# Altium footprint library ds1069_4mrw6xa.PcbLib: 1 footprints
Each footprint in its own frame and in the unit in brackets; x right, y up, seen from the top. Pads: shape width x height; smd on the part's side, far side on the other; paste and mask are expansions set on the pad; w line width, h text height; cw(c..) or ccw(c..) is an arc to the next point about the centre after c.
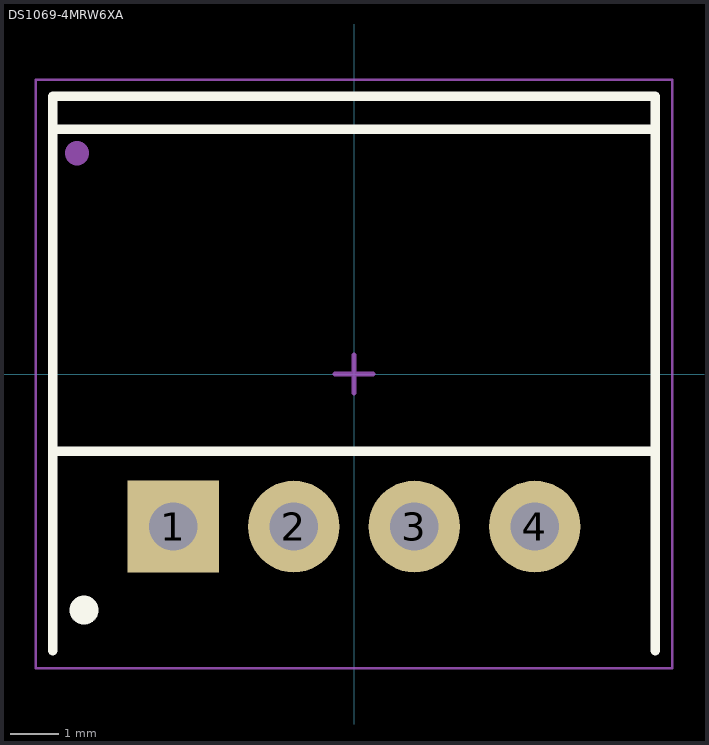
[diagram p0: the footprint, top view; thin cyan lines are the x and y axes]

## DS1069-4MRW6XA [mm]
height 7
pads (4):
  rect 1.9x1.9 hole 1: 1(-3.75,-3.164)
  round 1.9 hole 1: 2(-1.25,-3.164) 3(1.25,-3.164) 4(3.75,-3.164)
Top Overlay:
  circle w0.6: c-5.6,-4.9 r0.001
  lines w0.2: -6.25,-5.737 -6.25,5.763 6.25,5.763 6.25,-5.737 ; -6.25,-1.6 6.25,-1.6 ; -6.25,5.08 6.25,5.08
Top Comment:
  text ".Comment" at 1,6.5 h1.2
Top Designator:
  text ".Designator" at -0.6,6.5 h1.2
Top Component Outline:
  lines w0.1: -6.25,5.08 6.25,5.08 ; -6.25,-1.6 -6.25,5.763 6.25,5.763 6.25,-1.6 -6.25,-1.6
  lines w0.5: -5.75,4.58 -5.745,4.585
Top Courtyard (Mech15):
  lines w0.05: -6.6,-6.1 6.6,-6.1 6.6,6.1 -6.6,6.1 -6.6,-6.1
  lines w0.1: -0.4,0 0.4,0 ; 0,-0.4 0,0.4
3D body "DS1069-4R (CWF-4R).STEP": height 5.85, standoff -3.4, extent -6.25,-5.737 6.25,5.763